# EAGLE library part 2.4_TFT_SPI_TOUCH_SD (library polargraph3)
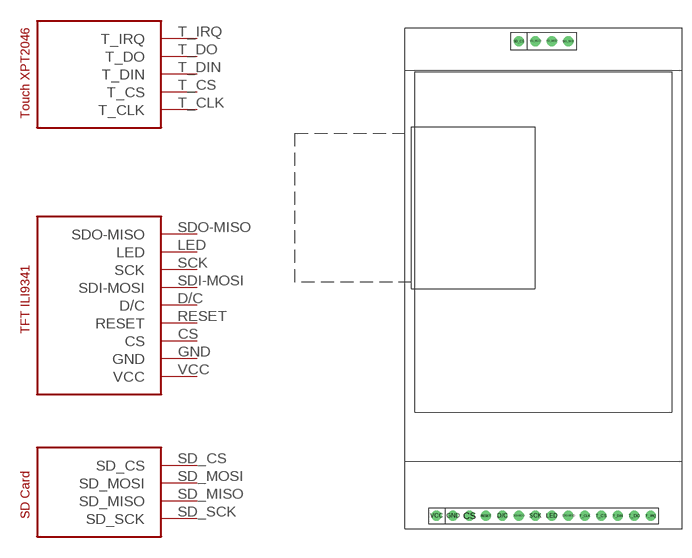
[diagram p1: symbol with the pads of 2.4_TFT_SPI_TOUCH_SD; footprint 2.4_TFT_SPI_TOUCH_SD]

Designator prefix -

## 2.4_TFT_SPI_TOUCH_SD  [2.4_TFT_SPI_TOUCH_SD]
CS  CS
D/C  D/C
GND  GND
LED  LED
RESET  RESET
SCK  SCK
SD_CS  SD_CS
SD_MISO  SD_MISO
SD_MOSI  SD_MOSI
SD_SCK  SD_SCK
SDI-MOSI  SDI-MOSI
SDO-MISO  SDO-MISO
T_CLK  T_CLK  in
T_CS  T_CS  out
T_DIN  T_DIN  in
T_DO  T_DO  out
T_IRQ  T_IRQ  out
VCC  VCC

## Footprint 2.4_TFT_SPI_TOUCH_SD (pad centres in mm)
drill 1.016: CS 9.93,2; D/C 15.01,2; GND 7.39,2; LED 22.63,2; RESET 12.47,2; SCK 20.09,2; SD_CS 17.55,75.18; SD_MISO 22.63,75.18; SD_MOSI 20.09,75.18; SD_SCK 25.17,75.18; SDI-MOSI 17.55,2; SDO-MISO 25.17,2; T_CLK 27.71,2; T_CS 30.25,2; T_DIN 32.79,2; T_DO 35.33,2; T_IRQ 37.87,2; VCC 4.85,2